# Altium footprint library HM-10-module.PcbLib: 1 footprints
Each footprint in its own frame and in the unit in brackets; x right, y up, seen from the top. Pads: shape width x height; smd on the part's side, far side on the other; paste and mask are expansions set on the pad; w line width, h text height; cw(c..) or ccw(c..) is an arc to the next point about the centre after c.
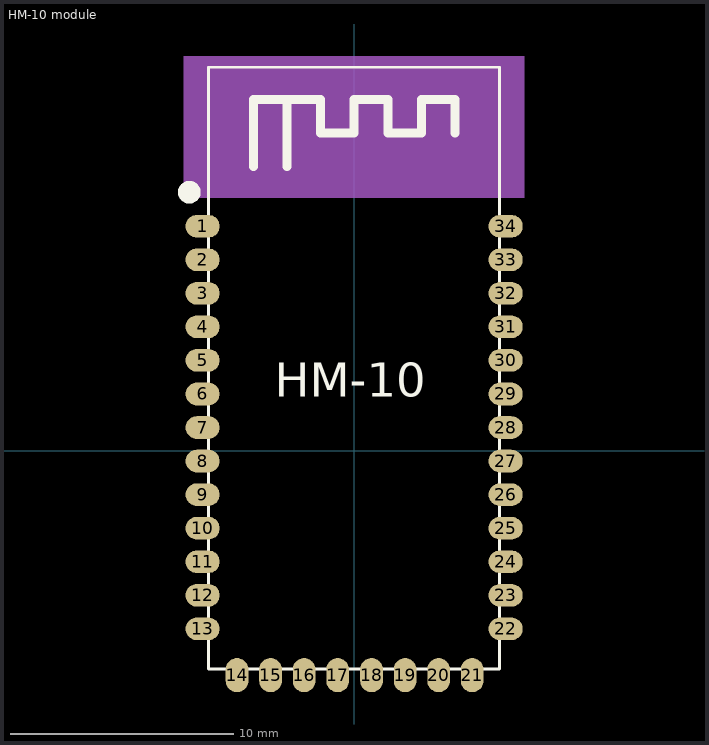
[diagram p0: the footprint, top view; thin cyan lines are the x and y axes]

## HM-10 module [mil]
height 62.99
pads (34):
  rrect99% 60x40 smd: 1(-266.77,395.08) 2(-266.77,336.08) 3(-266.77,277.08) 4(-266.77,218.08) 5(-266.77,159.08) 6(-266.77,99.8) 7(-266.77,40.75) 8(-266.77,-18.31) 9(-266.77,-77.36) 10(-266.77,-136.42) 11(-266.77,-195.47) 12(-266.77,-254.53) 13(-266.77,-313.58) 22(266.77,-313.58) 23(266.77,-254.53) 24(266.77,-195.47) 25(266.77,-136.42) 26(266.77,-77.36) 27(266.77,-18.31) 28(266.77,40.75) 29(266.77,99.8) 30(266.77,159.08) 31(266.77,218.08) 32(266.77,277.08) 33(266.77,336.08) 34(266.77,395.08)
  rrect99% 40x60 smd: 14(-206.14,-395.08) 15(-147.08,-395.08) 16(-88.03,-395.08) 17(-28.97,-395.08) 18(30.77,-395.08) 19(89.77,-395.08) 20(148.77,-395.08) 21(207.77,-395.08)
Top Overlay:
  circle w20: c-290,455 r10
  lines w5: -256.14,-384.45 -256.14,675.08 255.77,675.08 255.77,-384.45 -256.14,-384.45
  lines w16: -177.4,500.08 -177.4,618.08 -118.34,618.08 ; -118.34,500.08 -118.34,618.08 ; 177.77,559.08 177.77,618.08 118.77,618.08 118.77,559.08 59.77,559.08 59.77,618.08 -0.23,618.08 -0.23,559.08 -59.29,559.08 -59.29,618.08 -118.34,618.08
  text "HM-10" at -140,95 h60
Mechanical 2:
Mechanical 27:
  rectangle: -300.23,445.08 299.77,695.08
Mechanical 28:
  rectangle: -300.23,445.08 299.77,695.08
3D body: height 62.99, standoff 0, extent -256.12,-384.43 255.75,675.06